# EAGLE library part NCS20282 (library Bits_library_eagle 9x)
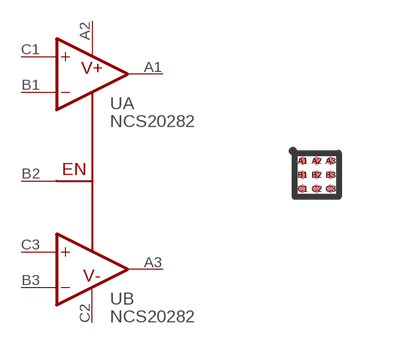
[diagram p24: symbol with the pads of WLCSP-9; footprint WLCSP-9]

Designator prefix -; gates A=OP B=OP PWR=OP_DUAL_PWR

## NCS20282  [WLCSP-9]
A1  A:OUT  out
A2  PWR:V+  pwr
A3  B:OUT  out
B1  A:-IN  in
B2  PWR:EN
B3  B:-IN  in
C1  A:+IN  in
C2  PWR:V-  pwr
C3  B:+IN  in

## Footprint WLCSP-9 (pad centres in mm)
smd 0.2 x 0.2: A1 -0.35,0.35; A2 0,0.35; A3 0.35,0.35; B1 -0.35,0; B2 0,0; B3 0.35,0; C1 -0.35,-0.35; C2 0,-0.35; C3 0.35,-0.35